# EAGLE library part LCD (library hw6_lib)
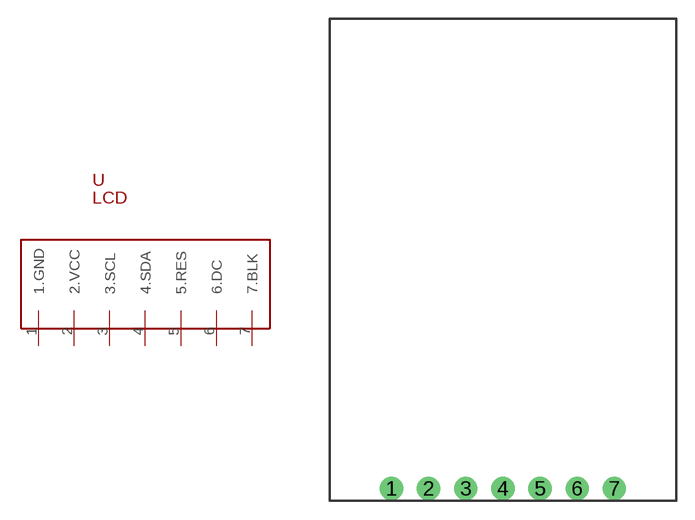
[diagram p10: symbol with the pads of LCD; footprint LCD]

Designator prefix -

## LCD  [LCD]
1  1.GND
2  2.VCC
3  3.SCL
4  4.SDA
5  5.RES
6  6.DC
7  7.BLK

## Footprint LCD (pad centres in mm)
drill 1.016 pad 1.88: 1 -9,-20.32; 2 -6,-20.32; 3 -3,-20.32; 4 0,-20.32; 5 3,-20.32; 6 6,-20.32; 7 9,-20.32